# Altium schematic symbol library Class4_Antenna.SchLib: 1 symbol
Pins are listed as number, name and electrical type; pins without a type are passive.

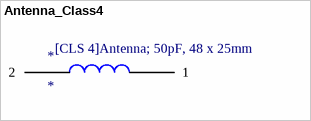
[diagram p0: symbol Antenna_Class4]

## Antenna_Class4
designator *
footprint Class4_Antenna
pins: 1, 2
text: [CLS 4]Antenna; 50pF, 48 x 25mm